# Altium schematic symbol library WL-SITW.SchLib: 8 symbols
Pins are listed as number, name and electrical type; pins without a type are passive.

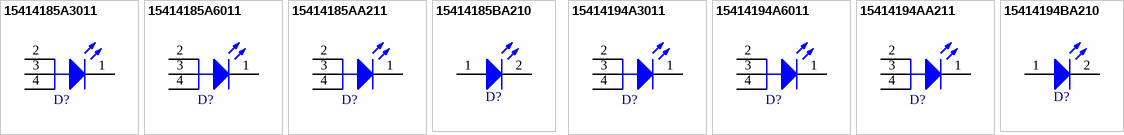
[diagram p0: symbols 15414185A3011 to 15414194BA210]

## 15414185A3011
designator D?, comment Infrared, 1.5V, 30°  (value not drawn)
WL-SITW SMT Infrared TOP LED Waterclear, size 3528 PLCC 4, Infrared, 1.5V, 30°; Manufacturer Part Number: 15414185A3011; Manufacturer: Wurth Elektronik; Centroid Wavelength: 845nm; Chip Technology: AlGaAs; Forward Voltage Max: 2V; Peak Wavelength: 850nm; Radiant Intensity: 150mW/sr; Radiant Intensity Min: 70mW/sr; Category: Infrared LEDs; Match Code: WL-SITW; ComponentLink1Description: Website Link; ComponentLink1URL: https://www.we-online.com/redexpert/article/15414185A3011?ad; ComponentLink2Description: Datasheet Link; ComponentLink2URL: https://www.we-online.com/redexpert/spec/15414185A3011?ad; Mount: Surface Mount; Operating Temperature Max: 85°C; Operating Temperature Min: -40°C; Packaging: Tape and Reel; Case/Size Code: 3528 PLCC 4; Length: 3.5mm; Width: 2.8mm; Height: 3.5mm; Emitting Color: Infrared; Forward Voltage: 1.5V; Viewing Angle: 30°
footprint WL-SITW_3528 PLCC 4_L3.5W2.8H3.5
simulation model 3528_15414185A3011
pins: 1 K, 2 A, 3 A, 4 A

## 15414185A6011
designator D?, comment Infrared, 1.5V, 60°  (value not drawn)
WL-SITW SMT Infrared TOP LED Waterclear, size 3528 PLCC 4, Infrared, 1.5V, 60°; Manufacturer Part Number: 15414185A6011; Manufacturer: Wurth Elektronik; Centroid Wavelength: 845nm; Chip Technology: AlGaAs; Forward Voltage Max: 2V; Peak Wavelength: 850nm; Radiant Intensity: 60mW/sr; Radiant Intensity Min: 25mW/sr; Category: Infrared LEDs; Match Code: WL-SITW; ComponentLink1Description: Website Link; ComponentLink1URL: https://www.we-online.com/redexpert/article/15414185A6011?ad; ComponentLink2Description: Datasheet Link; ComponentLink2URL: https://www.we-online.com/redexpert/spec/15414185A6011?ad; Mount: Surface Mount; Operating Temperature Max: 85°C; Operating Temperature Min: -40°C; Packaging: Tape and Reel; Case/Size Code: 3528 PLCC 4; Length: 3.5mm; Width: 2.8mm; Height: 3.25mm; Emitting Color: Infrared; Forward Voltage: 1.5V; Viewing Angle: 60°
footprint WL-SITW_3528 PLCC 4_L3.5W2.8H3.25
simulation model 3528_15414185A6011
pins: 1 K, 2 A, 3 A, 4 A

## 15414185AA211
designator D?, comment Infrared, 1.5V, 120°  (value not drawn)
WL-SITW SMT Infrared TOP LED Waterclear, size 3528 PLCC 4, Infrared, 1.5V, 120°; Manufacturer Part Number: 15414185AA211; Manufacturer: Wurth Elektronik; Centroid Wavelength: 845nm; Chip Technology: AlGaAs; Forward Voltage Max: 2V; Peak Wavelength: 850nm; Radiant Intensity: 40mW/sr; Radiant Intensity Min: 15mW/sr; Category: Infrared LEDs; Match Code: WL-SITW; ComponentLink1Description: Website Link; ComponentLink1URL: https://www.we-online.com/redexpert/article/15414185AA211?ad; ComponentLink2Description: Datasheet Link; ComponentLink2URL: https://www.we-online.com/redexpert/spec/15414185AA211?ad; Mount: Surface Mount; Operating Temperature Max: 85°C; Operating Temperature Min: -40°C; Packaging: Tape and Reel; Case/Size Code: 3528 PLCC 4; Length: 3.5mm; Width: 2.8mm; Height: 1.85mm; Emitting Color: Infrared; Forward Voltage: 1.5V; Viewing Angle: 120°
footprint WL-SITW_3528 PLCC 4_L3.5W2.8H1.85
simulation model 3528_15414185AA211
pins: 1 K, 2 A, 3 A, 4 A

## 15414185BA210
designator D?, comment Infrared, 1.5V, 120°  (value not drawn)
WL-SITW SMT Infrared TOP LED Waterclear, size 3528, Infrared, 1.5V, 120°; Manufacturer Part Number: 15414185BA210; Manufacturer: Wurth Elektronik; Case/Size Code: 3528; Centroid Wavelength: 845nm; Chip Technology: AlGaAs; Forward Voltage Max: 2V; Peak Wavelength: 850nm; Radiant Intensity: 9mW/sr; Radiant Intensity Min: 5mW/sr; Category: Infrared LEDs; Match Code: WL-SITW; ComponentLink1Description: Website Link; ComponentLink1URL: https://www.we-online.com/redexpert/article/15414185BA210?ad; ComponentLink2Description: Datasheet Link; ComponentLink2URL: https://www.we-online.com/redexpert/spec/15414185BA210?ad; Mount: Surface Mount; Operating Temperature Max: 85°C; Operating Temperature Min: -40°C; Packaging: Tape and Reel; Length: 3.5mm; Width: 2.8mm; Height: 1.9mm; Emitting Color: Infrared; Forward Voltage: 1.5V; Viewing Angle: 120°
footprint WL-SITW_3528_L3.5W2.8H1.9
simulation model 3528_15414185BA210
pins: 1 A, 2 K

## 15414194A3011
designator D?, comment Infrared, 1.4V, 30°  (value not drawn)
WL-SITW SMT Infrared TOP LED Waterclear, size 3528 PLCC 4, Infrared, 1.4V, 30°; Manufacturer Part Number: 15414194A3011; Manufacturer: Wurth Elektronik; Centroid Wavelength: 940nm; Chip Technology: AlGaAs; Forward Voltage Max: 2V; Radiant Intensity: 120mW/sr; Radiant Intensity Min: 60mW/sr; Category: Infrared LEDs; Match Code: WL-SITW; ComponentLink1Description: Website Link; ComponentLink1URL: https://www.we-online.com/redexpert/article/15414194A3011?ad; ComponentLink2Description: Datasheet Link; ComponentLink2URL: https://www.we-online.com/redexpert/spec/15414194A3011?ad; Mount: Surface Mount; Operating Temperature Max: 85°C; Operating Temperature Min: -40°C; Packaging: Tape and Reel; Case/Size Code: 3528 PLCC 4; Length: 3.5mm; Width: 2.8mm; Height: 3.5mm; Emitting Color: Infrared; Forward Voltage: 1.4V; Peak Wavelength: 940nm; Viewing Angle: 30°
footprint WL-SITW_3528 PLCC 4_L3.5W2.8H3.5
simulation model 3528_15414194A3011
pins: 1 K, 2 A, 3 A, 4 A

## 15414194A6011
designator D?, comment Infrared, 1.4V, 60°  (value not drawn)
WL-SITW SMT Infrared TOP LED Waterclear, size 3528 PLCC 4, Infrared, 1.4V, 60°; Manufacturer Part Number: 15414194A6011; Manufacturer: Wurth Elektronik; Centroid Wavelength: 940nm; Chip Technology: AlGaAs; Forward Voltage Max: 2V; Radiant Intensity: 50mW/sr; Radiant Intensity Min: 20mW/sr; Category: Infrared LEDs; Match Code: WL-SITW; ComponentLink1Description: Website Link; ComponentLink1URL: https://www.we-online.com/redexpert/article/15414194A6011?ad; ComponentLink2Description: Datasheet Link; ComponentLink2URL: https://www.we-online.com/redexpert/spec/15414194A6011?ad; Mount: Surface Mount; Operating Temperature Max: 85°C; Operating Temperature Min: -40°C; Packaging: Tape and Reel; Case/Size Code: 3528 PLCC 4; Length: 3.5mm; Width: 2.8mm; Height: 3.25mm; Emitting Color: Infrared; Forward Voltage: 1.4V; Peak Wavelength: 940nm; Viewing Angle: 60°
footprint WL-SITW_3528 PLCC 4_L3.5W2.8H3.25
simulation model 3528_15414194A6011
pins: 1 K, 2 A, 3 A, 4 A

## 15414194AA211
designator D?, comment Infrared, 1.4V, 120°  (value not drawn)
WL-SITW SMT Infrared TOP LED Waterclear, size 3528 PLCC 4, Infrared, 1.4V, 120°; Manufacturer Part Number: 15414194AA211; Manufacturer: Wurth Elektronik; Centroid Wavelength: 940nm; Chip Technology: AlGaAs; Forward Voltage Max: 2V; Radiant Intensity: 30mW/sr; Radiant Intensity Min: 10mW/sr; Category: Infrared LEDs; Match Code: WL-SITW; ComponentLink1Description: Website Link; ComponentLink1URL: https://www.we-online.com/redexpert/article/15414194AA211?ad; ComponentLink2Description: Datasheet Link; ComponentLink2URL: https://www.we-online.com/redexpert/spec/15414194AA211?ad; Mount: Surface Mount; Operating Temperature Max: 85°C; Operating Temperature Min: -40°C; Packaging: Tape and Reel; Case/Size Code: 3528 PLCC 4; Length: 3.5mm; Width: 2.8mm; Height: 1.85mm; Emitting Color: Infrared; Forward Voltage: 1.4V; Peak Wavelength: 940nm; Viewing Angle: 120°
footprint WL-SITW_3528 PLCC 4_L3.5W2.8H1.85
simulation model 3528_15414194AA211
pins: 1 K, 2 A, 3 A, 4 A

## 15414194BA210
designator D?, comment Infrared, 1.4V, 120°  (value not drawn)
WL-SITW SMT Infrared TOP LED Waterclear, size 3528, Infrared, 1.4V, 120°; Manufacturer Part Number: 15414194BA210; Manufacturer: Wurth Elektronik; Case/Size Code: 3528; Centroid Wavelength: 940nm; Chip Technology: AlGaAs; Forward Voltage Max: 2V; Radiant Intensity: 8mW/sr; Radiant Intensity Min: 5mW/sr; Category: Infrared LEDs; Match Code: WL-SITW; ComponentLink1Description: Website Link; ComponentLink1URL: https://www.we-online.com/redexpert/article/15414194BA210?ad; ComponentLink2Description: Datasheet Link; ComponentLink2URL: https://www.we-online.com/redexpert/spec/15414194BA210?ad; Mount: Surface Mount; Operating Temperature Max: 85°C; Operating Temperature Min: -40°C; Packaging: Tape and Reel; Length: 3.5mm; Width: 2.8mm; Height: 1.9mm; Emitting Color: Infrared; Forward Voltage: 1.4V; Peak Wavelength: 940nm; Viewing Angle: 120°
footprint WL-SITW_3528_L3.5W2.8H1.9
simulation model 3528_15414194BA210
pins: 1 A, 2 K